# Altium integrated library RES_VAR_1_2.IntLib: 2 symbols
Pins are listed as number, name and electrical type; pins without a type are passive.

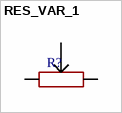
[diagram p0: symbol RES_VAR_1]

## RES_VAR_1
designator R?
footprint RES_VAR_1
footprint RES_VAR_RM-065
pins: 1, 2, 3


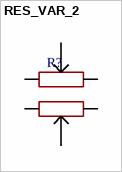
[diagram p1: symbol RES_VAR_2]

## RES_VAR_2
designator R?
footprint RES_VAR_2
pins: 1, 2, 3, 4, 5, 6